# Altium integrated library 3V6_zener_BZT52C3V6-7-F.IntLib: 1 symbol
Pins are listed as number, name and electrical type; pins without a type are passive.

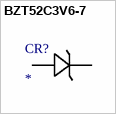
[diagram p0: symbol BZT52C3V6-7]

## BZT52C3V6-7
designator CR?
Imported; Manufacturer_Part_Number: BZT52C3V6-7; Vendor: Diodes Inc; Built_By: EMA_UL_Team; Type: DEV; C: Copyright (C) 2015 Accelerated Designs. All rights reserved; RefDes: RefDes; Value: Value
footprint SOD123
pins: 1, 2